# EAGLE library part YAC512 (library oldschool)
Analog interface for YMF262
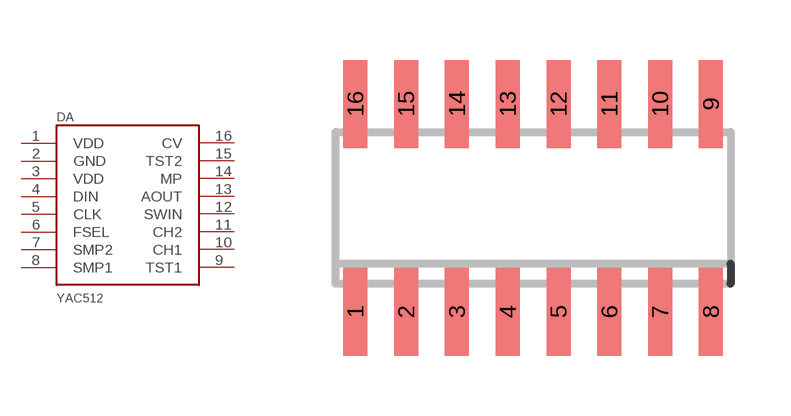
[diagram p10: symbol with the pads of SOIC16N; footprint SOIC16N]

Designator prefix DA

## YAC512-M  [SOIC16N]
1  VDD  pwr
2  GND  pwr
3  VDD  pwr
4  DIN  in
5  CLK  in
6  FSEL  in
7  SMP2  in
8  SMP1  in
9  TST1  in
10  CH1  out
11  CH2  out
12  SWIN  pas
13  AOUT  pas
14  MP  pas
15  TST2  in
16  CV  in

## Footprint SOIC16N (pad centres in mm)
SMALL OUTLINE INTEGRATED CIRCUIT
smd 0.6 x 2.2: 1 -4.445,-2.6; 2 -3.175,-2.6; 3 -1.905,-2.6; 4 -0.635,-2.6; 5 0.635,-2.6; 6 1.905,-2.6; 7 3.175,-2.6; 8 4.445,-2.6; 9 4.445,2.6; 10 3.175,2.6; 11 1.905,2.6; 12 0.635,2.6; 13 -0.635,2.6; 14 -1.905,2.6; 15 -3.175,2.6; 16 -4.445,2.6